# Altium footprint library 压敏电阻.PcbLib: 3 footprints
Each footprint in its own frame and in the unit in brackets; x right, y up, seen from the top. Pads: shape width x height; smd on the part's side, far side on the other; paste and mask are expansions set on the pad; w line width, h text height; cw(c..) or ccw(c..) is an arc to the next point about the centre after c.
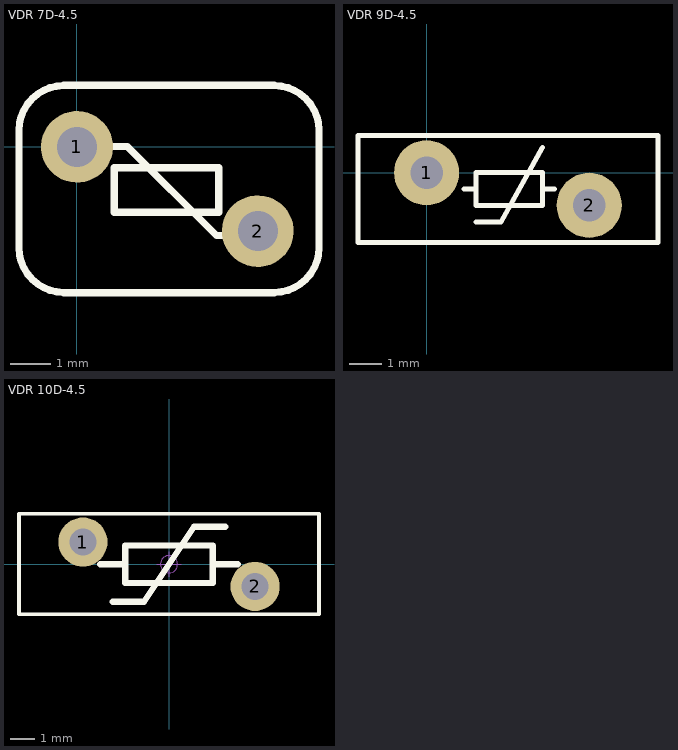
[diagram p0: the footprints below, top view; thin cyan lines are the x and y axes]

## VDR 7D-4.5 [mm]
pads (2):
  round 1.8 hole 1: 1(0,0) 2(4.532,-2.113)
Top Overlay:
  lines w0.18: -1.453,-2.581 -1.453,0.417 cw(c-0.336,0.417) -0.336,1.534 ; -1.453,-2.53 ccw(c-0.336,-2.53) -0.336,-3.647 ; -0.336,-3.657 4.947,-3.657 ; -0.336,1.543 4.947,1.543 ; 0.615,0.01 1.26,0.01 3.495,-2.225 3.917,-2.225 ; 4.947,-3.647 ccw(c4.947,-2.53) 6.065,-2.53 ; 4.947,1.534 cw(c4.947,0.417) 6.065,0.417 ; 6.065,-2.581 6.065,0.493 ; 0.934,-1.641 0.934,-0.523 3.55,-0.523 3.55,-1.641 0.934,-1.641

## VDR 9D-4.5 [mm] "压敏电阻9mm*4.5mm(直径*厚度）"
pads (2):
  round 2 hole 1: 1(0,0) 2(5,-1)
Top Overlay:
  lines w0.152: 1.143,-0.5 1.524,-0.5 ; 1.524,-1.516 2.286,-1.516 3.556,0.77 ; 3.556,-0.5 3.937,-0.5 ; -2.108,-2.151 7.112,-2.151 7.112,1.151 -2.108,1.151 -2.108,-2.151 ; 1.524,-1.008 1.524,0.008 3.556,0.008 3.556,-1.008 1.524,-1.008
3D body: height 10, standoff -3.5, extent -1.998,-2 6.999,1

## VDR 10D-4.5 [mm] "压敏电阻10mm*4.5mm(直径*厚度）"
pads (2):
  round 2 hole 1.1: 1(-3.5,0.9) 2(3.5,-0.9)
Top Overlay:
  lines w0.152: -6.096,-2.032 6.096,-2.032 6.096,2.051 -6.096,2.051 -6.096,-2.032
  lines w0.254: -2.794,0 -1.778,0 ; -2.286,-1.524 -1.016,-1.524 1.016,1.524 2.286,1.524 ; 1.778,0 2.794,0 ; -1.778,-0.762 -1.778,0.762 1.778,0.762 1.778,-0.762 -1.778,-0.762
Mechanical 15:
  circle w0.05: c0,0 r0.35
  lines w0.05: -0.5,0 0.5,0 ; 0,-0.5 0,0.5
3D body: height 13.5, standoff -4, extent -6,-2 6,2